# Altium integrated library Microchip Microcontroller 8-Bit PIC12.IntLib: 221 symbols (part 6 of 6)
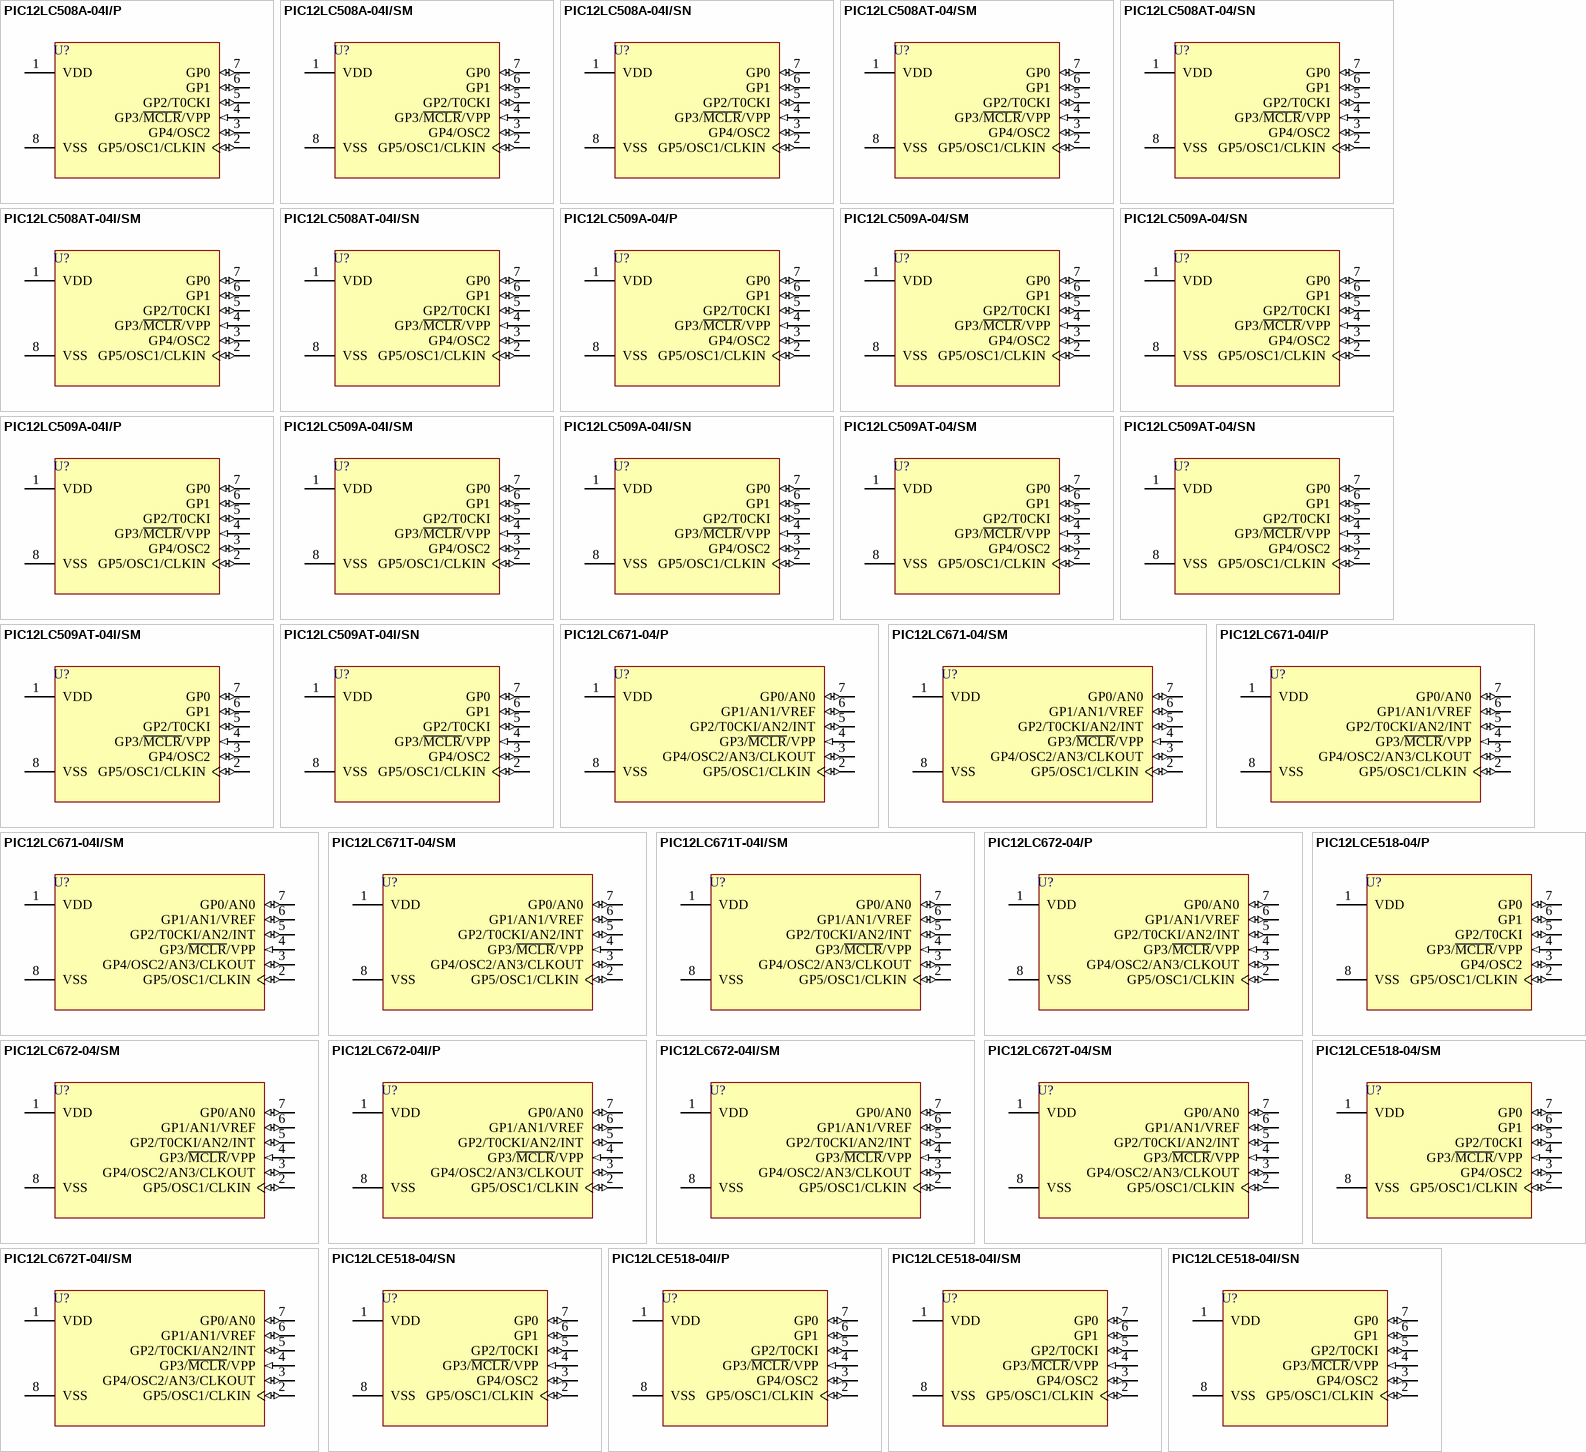
[diagram p11: symbols PIC12LC508A-04I/P to PIC12LCE518-04I/SN]

## PIC12LC672-04I/SM
designator U?
8-Bit CMOS Microcontroller with A/D Converter, 8-Pin SOIC 208mil, 4 MHz, 2.5 to 5.5V Supply Range, Industrial Temperature; Published: 11-Oct-2004; LatestRevisionDate: 13-Apr-2006; LatestRevisionNote: IPC-7351 Footprint Added.; DatasheetVersion: DS30561B_1999; PackageVersion: 2003; PackageReference: SOIC208-8; Publisher: Altium Limited; PackageDescription: 8-Pin Plastic Medium Body Small Outline Package 1.27 mm Pitch; ComponentLink1Description: Manufacturer Link; ComponentLink1URL: http://www.microchip.com; ComponentLink2Description: Datasheet; ComponentLink2URL: http://ww1.microchip.com/downloads/en/DeviceDoc/30561b.pdf; ComponentLink3Description: Packaging Specification; ComponentLink3URL: http://ww1.microchip.com/downloads/en/PackagingSpec/00049AD.pdf
footprint SOIC208-8_N (SOP, 8-Leads, Body 5.2x5.2mm, Pitch 1.27mm, IPC Medium Density)
footprint SOIC208-8_L (SOP, 8-Leads, Body 5.2x5.2mm, Pitch 1.27mm, IPC High Density)
footprint SOIC208-8_M (SOP, 8-Leads, Body 5.2x5.2mm, Pitch 1.27mm, IPC Low Density)
3D model SOIC208-8 (8-Pin Plastic Medium Body Small Outline Package 1.27 mm Pitch)
pins: 1 VDD (power), 2 GP5/OSC1/CLKIN (io), 3 GP4/OSC2/AN3/CLKOUT (io), 4 GP3/~{MCLR}/VPP (in), 5 GP2/T0CKI/AN2/INT (io), 6 GP1/AN1/VREF (io), 7 GP0/AN0 (io), 8 VSS (power)

## PIC12LC672T-04/SM
designator U?
8-Bit CMOS Microcontroller with A/D Converter, 8-Pin SOIC 208mil, 4 MHz, 2.5 to 5.5V Supply Range, Commercial Temperature, Tape and Reel; Published: 11-Oct-2004; LatestRevisionDate: 13-Apr-2006; LatestRevisionNote: IPC-7351 Footprint Added.; DatasheetVersion: DS30561B_1999; PackageVersion: 2003; PackageReference: SOIC208-8; Publisher: Altium Limited; PackageDescription: 8-Pin Plastic Medium Body Small Outline Package 1.27 mm Pitch; ComponentLink1Description: Manufacturer Link; ComponentLink1URL: http://www.microchip.com; ComponentLink2Description: Datasheet; ComponentLink2URL: http://ww1.microchip.com/downloads/en/DeviceDoc/30561b.pdf; ComponentLink3Description: Packaging Specification; ComponentLink3URL: http://ww1.microchip.com/downloads/en/PackagingSpec/00049AD.pdf
footprint SOIC208-8_N (SOP, 8-Leads, Body 5.2x5.2mm, Pitch 1.27mm, IPC Medium Density)
footprint SOIC208-8_L (SOP, 8-Leads, Body 5.2x5.2mm, Pitch 1.27mm, IPC High Density)
footprint SOIC208-8_M (SOP, 8-Leads, Body 5.2x5.2mm, Pitch 1.27mm, IPC Low Density)
3D model SOIC208-8 (8-Pin Plastic Medium Body Small Outline Package 1.27 mm Pitch)
pins: 1 VDD (power), 2 GP5/OSC1/CLKIN (io), 3 GP4/OSC2/AN3/CLKOUT (io), 4 GP3/~{MCLR}/VPP (in), 5 GP2/T0CKI/AN2/INT (io), 6 GP1/AN1/VREF (io), 7 GP0/AN0 (io), 8 VSS (power)

## PIC12LC672T-04I/SM
designator U?
8-Bit CMOS Microcontroller with A/D Converter, 8-Pin SOIC 208mil, 4 MHz, 2.5 to 5.5V Supply Range, Industrial Temperature, Tape and Reel; Published: 11-Oct-2004; LatestRevisionDate: 13-Apr-2006; LatestRevisionNote: IPC-7351 Footprint Added.; DatasheetVersion: DS30561B_1999; PackageVersion: 2003; PackageReference: SOIC208-8; Publisher: Altium Limited; PackageDescription: 8-Pin Plastic Medium Body Small Outline Package 1.27 mm Pitch; ComponentLink1Description: Manufacturer Link; ComponentLink1URL: http://www.microchip.com; ComponentLink2Description: Datasheet; ComponentLink2URL: http://ww1.microchip.com/downloads/en/DeviceDoc/30561b.pdf; ComponentLink3Description: Packaging Specification; ComponentLink3URL: http://ww1.microchip.com/downloads/en/PackagingSpec/00049AD.pdf
footprint SOIC208-8_N (SOP, 8-Leads, Body 5.2x5.2mm, Pitch 1.27mm, IPC Medium Density)
footprint SOIC208-8_L (SOP, 8-Leads, Body 5.2x5.2mm, Pitch 1.27mm, IPC High Density)
footprint SOIC208-8_M (SOP, 8-Leads, Body 5.2x5.2mm, Pitch 1.27mm, IPC Low Density)
3D model SOIC208-8 (8-Pin Plastic Medium Body Small Outline Package 1.27 mm Pitch)
pins: 1 VDD (power), 2 GP5/OSC1/CLKIN (io), 3 GP4/OSC2/AN3/CLKOUT (io), 4 GP3/~{MCLR}/VPP (in), 5 GP2/T0CKI/AN2/INT (io), 6 GP1/AN1/VREF (io), 7 GP0/AN0 (io), 8 VSS (power)

## PIC12LCE518-04/P
designator U?
8-Bit CMOS Microcontroller, 8-Pin PDIP, 4 MHz, 2.5 to 5.5V Supply Range, Commercial Temperature; Note: Not recommended for new designs. Consider PIC12F629 instead.; Published: 11-Oct-2004; DatasheetVersion: DS40139E_1999; PackageVersion: Oct-2005; PackageReference: PDIP300-8; Publisher: Altium Limited; PackageDescription: DIP, Plastic; 8 Leads; Row Spacing 7.62 mm; Pitch 2.54 mm; Code_JEDEC: MS-001; ComponentLink1Description: Manufacturer Link; ComponentLink1URL: http://www.microchip.com; ComponentLink2Description: Datasheet; ComponentLink2URL: http://ww1.microchip.com/downloads/en/DeviceDoc/40139e.pdf; ComponentLink3Description: Packaging Specification; ComponentLink3URL: http://ww1.microchip.com/downloads/en/PackagingSpec/00049AD.pdf
footprint PDIP300-8 (DIP, Plastic; 8 Leads; Row Spacing 7.62 mm; Pitch 2.54 mm)
pins: 1 VDD (power), 2 GP5/OSC1/CLKIN (io), 3 GP4/OSC2 (io), 4 GP3/~{MCLR}/VPP (in), 5 GP2/T0CKI (io), 6 GP1 (io), 7 GP0 (io), 8 VSS (power)

## PIC12LCE518-04/SM
designator U?
8-Bit CMOS Microcontroller, 8-Pin SOIC 208mil, 4 MHz, 2.5 to 5.5V Supply Range, Commercial Temperature; Note: Not recommended for new designs. Consider PIC12F629 instead.; Published: 11-Oct-2004; LatestRevisionDate: 13-Apr-2006; LatestRevisionNote: IPC-7351 Footprint Added.; DatasheetVersion: DS40139E_1999; PackageVersion: 2003; PackageReference: SOIC208-8; Publisher: Altium Limited; PackageDescription: 8-Pin Plastic Medium Body Small Outline Package 1.27 mm Pitch; ComponentLink1Description: Manufacturer Link; ComponentLink1URL: http://www.microchip.com; ComponentLink2Description: Datasheet; ComponentLink2URL: http://ww1.microchip.com/downloads/en/DeviceDoc/40139e.pdf; ComponentLink3Description: Packaging Specification; ComponentLink3URL: http://ww1.microchip.com/downloads/en/PackagingSpec/00049AD.pdf
footprint SOIC208-8_N (SOP, 8-Leads, Body 5.2x5.2mm, Pitch 1.27mm, IPC Medium Density)
footprint SOIC208-8_L (SOP, 8-Leads, Body 5.2x5.2mm, Pitch 1.27mm, IPC High Density)
footprint SOIC208-8_M (SOP, 8-Leads, Body 5.2x5.2mm, Pitch 1.27mm, IPC Low Density)
3D model SOIC208-8 (8-Pin Plastic Medium Body Small Outline Package 1.27 mm Pitch)
pins: 1 VDD (power), 2 GP5/OSC1/CLKIN (io), 3 GP4/OSC2 (io), 4 GP3/~{MCLR}/VPP (in), 5 GP2/T0CKI (io), 6 GP1 (io), 7 GP0 (io), 8 VSS (power)

## PIC12LCE518-04/SN
designator U?
8-Bit CMOS Microcontroller, 8-Pin SOIC 150mil, 4 MHz, 2.5 to 5.5V Supply Range, Commercial Temperature; Note: Not recommended for new designs. Consider PIC12F629 instead.; Published: 11-Oct-2004; LatestRevisionDate: 13-Apr-2006; LatestRevisionNote: IPC-7351 Footprint Added.; DatasheetVersion: DS40139E_1999; PackageVersion: Oct-2005; PackageReference: SOIC150-8; Publisher: Altium Limited; PackageDescription: 8-Pin Plastic Narrow Body Small Outline Integrated Circuit 1.27 mm Pitch; Code_JEDEC: MS-012; ComponentLink1Description: Manufacturer Link; ComponentLink1URL: http://www.microchip.com; ComponentLink2Description: Datasheet; ComponentLink2URL: http://ww1.microchip.com/downloads/en/DeviceDoc/40139e.pdf; ComponentLink3Description: Packaging Specification; ComponentLink3URL: http://ww1.microchip.com/downloads/en/PackagingSpec/00049AD.pdf
footprint SOIC150-8_N (SOIC, 8-Leads, Body 4.9x3.8mm, Pitch 1.27mm, IPC Medium Density)
footprint SOIC150-8_L (SOIC, 8-Leads, Body 4.9x3.8mm, Pitch 1.27mm, IPC High Density)
footprint SOIC150-8_M (SOIC, 8-Leads, Body 4.9x3.8mm, Pitch 1.27mm, IPC Low Density)
3D model SOIC150-8 (8-Pin Plastic Narrow Body Small Outline Integrated Circuit 1.27 mm Pitch)
pins: 1 VDD (power), 2 GP5/OSC1/CLKIN (io), 3 GP4/OSC2 (io), 4 GP3/~{MCLR}/VPP (in), 5 GP2/T0CKI (io), 6 GP1 (io), 7 GP0 (io), 8 VSS (power)

## PIC12LCE518-04I/P
designator U?
8-Bit CMOS Microcontroller, 8-Pin PDIP, 4 MHz, 2.5 to 5.5V Supply Range, Industrial Temperature; Note: Not recommended for new designs. Consider PIC12F629 instead.; Published: 11-Oct-2004; DatasheetVersion: DS40139E_1999; PackageVersion: Oct-2005; PackageReference: PDIP300-8; Publisher: Altium Limited; PackageDescription: DIP, Plastic; 8 Leads; Row Spacing 7.62 mm; Pitch 2.54 mm; Code_JEDEC: MS-001; ComponentLink1Description: Manufacturer Link; ComponentLink1URL: http://www.microchip.com; ComponentLink2Description: Datasheet; ComponentLink2URL: http://ww1.microchip.com/downloads/en/DeviceDoc/40139e.pdf; ComponentLink3Description: Packaging Specification; ComponentLink3URL: http://ww1.microchip.com/downloads/en/PackagingSpec/00049AD.pdf
footprint PDIP300-8 (DIP, Plastic; 8 Leads; Row Spacing 7.62 mm; Pitch 2.54 mm)
pins: 1 VDD (power), 2 GP5/OSC1/CLKIN (io), 3 GP4/OSC2 (io), 4 GP3/~{MCLR}/VPP (in), 5 GP2/T0CKI (io), 6 GP1 (io), 7 GP0 (io), 8 VSS (power)

## PIC12LCE518-04I/SM
designator U?
8-Bit CMOS Microcontroller, 8-Pin SOIC 208mil, 4 MHz, 2.5 to 5.5V Supply Range, Industrial Temperature; Note: Not recommended for new designs. Consider PIC12F629 instead.; Published: 11-Oct-2004; LatestRevisionDate: 13-Apr-2006; LatestRevisionNote: IPC-7351 Footprint Added.; DatasheetVersion: DS40139E_1999; PackageVersion: 2003; PackageReference: SOIC208-8; Publisher: Altium Limited; PackageDescription: 8-Pin Plastic Medium Body Small Outline Package 1.27 mm Pitch; ComponentLink1Description: Manufacturer Link; ComponentLink1URL: http://www.microchip.com; ComponentLink2Description: Datasheet; ComponentLink2URL: http://ww1.microchip.com/downloads/en/DeviceDoc/40139e.pdf; ComponentLink3Description: Packaging Specification; ComponentLink3URL: http://ww1.microchip.com/downloads/en/PackagingSpec/00049AD.pdf
footprint SOIC208-8_N (SOP, 8-Leads, Body 5.2x5.2mm, Pitch 1.27mm, IPC Medium Density)
footprint SOIC208-8_L (SOP, 8-Leads, Body 5.2x5.2mm, Pitch 1.27mm, IPC High Density)
footprint SOIC208-8_M (SOP, 8-Leads, Body 5.2x5.2mm, Pitch 1.27mm, IPC Low Density)
3D model SOIC208-8 (8-Pin Plastic Medium Body Small Outline Package 1.27 mm Pitch)
pins: 1 VDD (power), 2 GP5/OSC1/CLKIN (io), 3 GP4/OSC2 (io), 4 GP3/~{MCLR}/VPP (in), 5 GP2/T0CKI (io), 6 GP1 (io), 7 GP0 (io), 8 VSS (power)

## PIC12LCE518-04I/SN
designator U?
8-Bit CMOS Microcontroller, 8-Pin SOIC 150mil, 4 MHz, 2.5 to 5.5V Supply Range, Industrial Temperature; Note: Not recommended for new designs. Consider PIC12F629 instead.; Published: 11-Oct-2004; LatestRevisionDate: 13-Apr-2006; LatestRevisionNote: IPC-7351 Footprint Added.; DatasheetVersion: DS40139E_1999; PackageVersion: Oct-2005; PackageReference: SOIC150-8; Publisher: Altium Limited; PackageDescription: 8-Pin Plastic Narrow Body Small Outline Integrated Circuit 1.27 mm Pitch; Code_JEDEC: MS-012; ComponentLink1Description: Manufacturer Link; ComponentLink1URL: http://www.microchip.com; ComponentLink2Description: Datasheet; ComponentLink2URL: http://ww1.microchip.com/downloads/en/DeviceDoc/40139e.pdf; ComponentLink3Description: Packaging Specification; ComponentLink3URL: http://ww1.microchip.com/downloads/en/PackagingSpec/00049AD.pdf
footprint SOIC150-8_N (SOIC, 8-Leads, Body 4.9x3.8mm, Pitch 1.27mm, IPC Medium Density)
footprint SOIC150-8_L (SOIC, 8-Leads, Body 4.9x3.8mm, Pitch 1.27mm, IPC High Density)
footprint SOIC150-8_M (SOIC, 8-Leads, Body 4.9x3.8mm, Pitch 1.27mm, IPC Low Density)
3D model SOIC150-8 (8-Pin Plastic Narrow Body Small Outline Integrated Circuit 1.27 mm Pitch)
pins: 1 VDD (power), 2 GP5/OSC1/CLKIN (io), 3 GP4/OSC2 (io), 4 GP3/~{MCLR}/VPP (in), 5 GP2/T0CKI (io), 6 GP1 (io), 7 GP0 (io), 8 VSS (power)

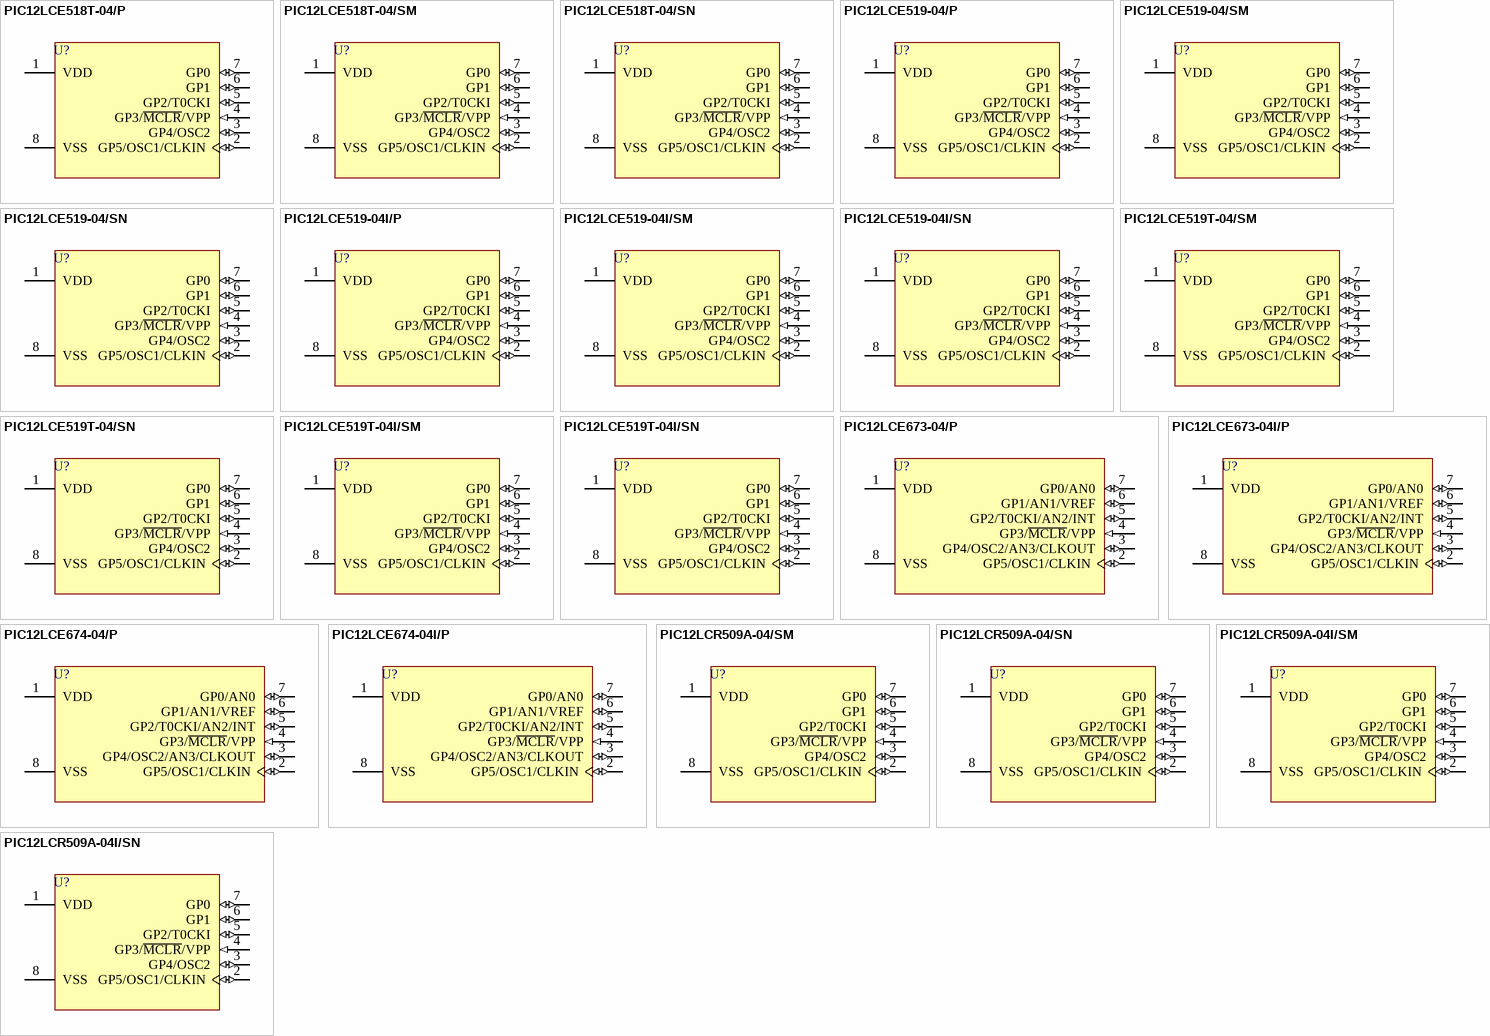
[diagram p6: symbols PIC12LCE518T-04/P to PIC12LCR509A-04I/SN]

## PIC12LCE518T-04/P
designator U?
8-Bit CMOS Microcontroller, 8-Pin PDIP, 4 MHz, 2.5 to 5.5V Supply Range, Commercial Temperature, Tape and Reel; Note: Not recommended for new designs. Consider PIC12F629 instead.; Published: 11-Oct-2004; DatasheetVersion: DS40139E_1999; PackageVersion: Oct-2005; PackageReference: PDIP300-8; Publisher: Altium Limited; PackageDescription: DIP, Plastic; 8 Leads; Row Spacing 7.62 mm; Pitch 2.54 mm; Code_JEDEC: MS-001; ComponentLink1Description: Manufacturer Link; ComponentLink1URL: http://www.microchip.com; ComponentLink2Description: Datasheet; ComponentLink2URL: http://ww1.microchip.com/downloads/en/DeviceDoc/40139e.pdf; ComponentLink3Description: Packaging Specification; ComponentLink3URL: http://ww1.microchip.com/downloads/en/PackagingSpec/00049AD.pdf
footprint PDIP300-8 (DIP, Plastic; 8 Leads; Row Spacing 7.62 mm; Pitch 2.54 mm)
pins: 1 VDD (power), 2 GP5/OSC1/CLKIN (io), 3 GP4/OSC2 (io), 4 GP3/~{MCLR}/VPP (in), 5 GP2/T0CKI (io), 6 GP1 (io), 7 GP0 (io), 8 VSS (power)

## PIC12LCE518T-04/SM
designator U?
8-Bit CMOS Microcontroller, 8-Pin SOIC 208mil, 4 MHz, 2.5 to 5.5V Supply Range, Commercial Temperature, Tape and Reel; Note: Not recommended for new designs. Consider PIC12F629 instead.; Published: 11-Oct-2004; LatestRevisionDate: 13-Apr-2006; LatestRevisionNote: IPC-7351 Footprint Added.; DatasheetVersion: DS40139E_1999; PackageVersion: 2003; PackageReference: SOIC208-8; Publisher: Altium Limited; PackageDescription: 8-Pin Plastic Medium Body Small Outline Package 1.27 mm Pitch; ComponentLink1Description: Manufacturer Link; ComponentLink1URL: http://www.microchip.com; ComponentLink2Description: Datasheet; ComponentLink2URL: http://ww1.microchip.com/downloads/en/DeviceDoc/40139e.pdf; ComponentLink3Description: Packaging Specification; ComponentLink3URL: http://ww1.microchip.com/downloads/en/PackagingSpec/00049AD.pdf
footprint SOIC208-8_N (SOP, 8-Leads, Body 5.2x5.2mm, Pitch 1.27mm, IPC Medium Density)
footprint SOIC208-8_L (SOP, 8-Leads, Body 5.2x5.2mm, Pitch 1.27mm, IPC High Density)
footprint SOIC208-8_M (SOP, 8-Leads, Body 5.2x5.2mm, Pitch 1.27mm, IPC Low Density)
3D model SOIC208-8 (8-Pin Plastic Medium Body Small Outline Package 1.27 mm Pitch)
pins: 1 VDD (power), 2 GP5/OSC1/CLKIN (io), 3 GP4/OSC2 (io), 4 GP3/~{MCLR}/VPP (in), 5 GP2/T0CKI (io), 6 GP1 (io), 7 GP0 (io), 8 VSS (power)

## PIC12LCE518T-04/SN
designator U?
8-Bit CMOS Microcontroller, 8-Pin SOIC 150mil, 4 MHz, 2.5 to 5.5V Supply Range, Commercial Temperature, Tape and Reel; Note: Not recommended for new designs. Consider PIC12F629 instead.; Published: 11-Oct-2004; LatestRevisionDate: 13-Apr-2006; LatestRevisionNote: IPC-7351 Footprint Added.; DatasheetVersion: DS40139E_1999; PackageVersion: Oct-2005; PackageReference: SOIC150-8; Publisher: Altium Limited; PackageDescription: 8-Pin Plastic Narrow Body Small Outline Integrated Circuit 1.27 mm Pitch; Code_JEDEC: MS-012; ComponentLink1Description: Manufacturer Link; ComponentLink1URL: http://www.microchip.com; ComponentLink2Description: Datasheet; ComponentLink2URL: http://ww1.microchip.com/downloads/en/DeviceDoc/40139e.pdf; ComponentLink3Description: Packaging Specification; ComponentLink3URL: http://ww1.microchip.com/downloads/en/PackagingSpec/00049AD.pdf
footprint SOIC150-8_N (SOIC, 8-Leads, Body 4.9x3.8mm, Pitch 1.27mm, IPC Medium Density)
footprint SOIC150-8_L (SOIC, 8-Leads, Body 4.9x3.8mm, Pitch 1.27mm, IPC High Density)
footprint SOIC150-8_M (SOIC, 8-Leads, Body 4.9x3.8mm, Pitch 1.27mm, IPC Low Density)
3D model SOIC150-8 (8-Pin Plastic Narrow Body Small Outline Integrated Circuit 1.27 mm Pitch)
pins: 1 VDD (power), 2 GP5/OSC1/CLKIN (io), 3 GP4/OSC2 (io), 4 GP3/~{MCLR}/VPP (in), 5 GP2/T0CKI (io), 6 GP1 (io), 7 GP0 (io), 8 VSS (power)

## PIC12LCE519-04/P
designator U?
8-Bit CMOS Microcontroller, 8-Pin PDIP, 4 MHz, 2.5 to 5.5V Supply Range, Commercial Temperature; Note: Not recommended for new designs. Consider PIC12F629 instead.; Published: 11-Oct-2004; DatasheetVersion: DS40139E_1999; PackageVersion: Oct-2005; PackageReference: PDIP300-8; Publisher: Altium Limited; PackageDescription: DIP, Plastic; 8 Leads; Row Spacing 7.62 mm; Pitch 2.54 mm; Code_JEDEC: MS-001; ComponentLink1Description: Manufacturer Link; ComponentLink1URL: http://www.microchip.com; ComponentLink2Description: Datasheet; ComponentLink2URL: http://ww1.microchip.com/downloads/en/DeviceDoc/40139e.pdf; ComponentLink3Description: Packaging Specification; ComponentLink3URL: http://ww1.microchip.com/downloads/en/PackagingSpec/00049AD.pdf
footprint PDIP300-8 (DIP, Plastic; 8 Leads; Row Spacing 7.62 mm; Pitch 2.54 mm)
pins: 1 VDD (power), 2 GP5/OSC1/CLKIN (io), 3 GP4/OSC2 (io), 4 GP3/~{MCLR}/VPP (in), 5 GP2/T0CKI (io), 6 GP1 (io), 7 GP0 (io), 8 VSS (power)

## PIC12LCE519-04/SM
designator U?
8-Bit CMOS Microcontroller, 8-Pin SOIC 208mil, 4 MHz, 2.5 to 5.5V Supply Range, Commercial Temperature; Note: Not recommended for new designs. Consider PIC12F629 instead.; Published: 11-Oct-2004; LatestRevisionDate: 13-Apr-2006; LatestRevisionNote: IPC-7351 Footprint Added.; DatasheetVersion: DS40139E_1999; PackageVersion: 2003; PackageReference: SOIC208-8; Publisher: Altium Limited; PackageDescription: 8-Pin Plastic Medium Body Small Outline Package 1.27 mm Pitch; ComponentLink1Description: Manufacturer Link; ComponentLink1URL: http://www.microchip.com; ComponentLink2Description: Datasheet; ComponentLink2URL: http://ww1.microchip.com/downloads/en/DeviceDoc/40139e.pdf; ComponentLink3Description: Packaging Specification; ComponentLink3URL: http://ww1.microchip.com/downloads/en/PackagingSpec/00049AD.pdf
footprint SOIC208-8_N (SOP, 8-Leads, Body 5.2x5.2mm, Pitch 1.27mm, IPC Medium Density)
footprint SOIC208-8_L (SOP, 8-Leads, Body 5.2x5.2mm, Pitch 1.27mm, IPC High Density)
footprint SOIC208-8_M (SOP, 8-Leads, Body 5.2x5.2mm, Pitch 1.27mm, IPC Low Density)
3D model SOIC208-8 (8-Pin Plastic Medium Body Small Outline Package 1.27 mm Pitch)
pins: 1 VDD (power), 2 GP5/OSC1/CLKIN (io), 3 GP4/OSC2 (io), 4 GP3/~{MCLR}/VPP (in), 5 GP2/T0CKI (io), 6 GP1 (io), 7 GP0 (io), 8 VSS (power)

## PIC12LCE519-04/SN
designator U?
8-Bit CMOS Microcontroller, 8-Pin SOIC 150mil, 4 MHz, 2.5 to 5.5V Supply Range, Commercial Temperature; Note: Not recommended for new designs. Consider PIC12F629 instead.; Published: 11-Oct-2004; LatestRevisionDate: 13-Apr-2006; LatestRevisionNote: IPC-7351 Footprint Added.; DatasheetVersion: DS40139E_1999; PackageVersion: Oct-2005; PackageReference: SOIC150-8; Publisher: Altium Limited; PackageDescription: 8-Pin Plastic Narrow Body Small Outline Integrated Circuit 1.27 mm Pitch; Code_JEDEC: MS-012; ComponentLink1Description: Manufacturer Link; ComponentLink1URL: http://www.microchip.com; ComponentLink2Description: Datasheet; ComponentLink2URL: http://ww1.microchip.com/downloads/en/DeviceDoc/40139e.pdf; ComponentLink3Description: Packaging Specification; ComponentLink3URL: http://ww1.microchip.com/downloads/en/PackagingSpec/00049AD.pdf
footprint SOIC150-8_N (SOIC, 8-Leads, Body 4.9x3.8mm, Pitch 1.27mm, IPC Medium Density)
footprint SOIC150-8_L (SOIC, 8-Leads, Body 4.9x3.8mm, Pitch 1.27mm, IPC High Density)
footprint SOIC150-8_M (SOIC, 8-Leads, Body 4.9x3.8mm, Pitch 1.27mm, IPC Low Density)
3D model SOIC150-8 (8-Pin Plastic Narrow Body Small Outline Integrated Circuit 1.27 mm Pitch)
pins: 1 VDD (power), 2 GP5/OSC1/CLKIN (io), 3 GP4/OSC2 (io), 4 GP3/~{MCLR}/VPP (in), 5 GP2/T0CKI (io), 6 GP1 (io), 7 GP0 (io), 8 VSS (power)

## PIC12LCE519-04I/P
designator U?
8-Bit CMOS Microcontroller, 8-Pin PDIP, 4 MHz, 2.5 to 5.5V Supply Range, Industrial Temperature; Note: Not recommended for new designs. Consider PIC12F629 instead.; Published: 11-Oct-2004; DatasheetVersion: DS40139E_1999; PackageVersion: Oct-2005; PackageReference: PDIP300-8; Publisher: Altium Limited; PackageDescription: DIP, Plastic; 8 Leads; Row Spacing 7.62 mm; Pitch 2.54 mm; Code_JEDEC: MS-001; ComponentLink1Description: Manufacturer Link; ComponentLink1URL: http://www.microchip.com; ComponentLink2Description: Datasheet; ComponentLink2URL: http://ww1.microchip.com/downloads/en/DeviceDoc/40139e.pdf; ComponentLink3Description: Packaging Specification; ComponentLink3URL: http://ww1.microchip.com/downloads/en/PackagingSpec/00049AD.pdf
footprint PDIP300-8 (DIP, Plastic; 8 Leads; Row Spacing 7.62 mm; Pitch 2.54 mm)
pins: 1 VDD (power), 2 GP5/OSC1/CLKIN (io), 3 GP4/OSC2 (io), 4 GP3/~{MCLR}/VPP (in), 5 GP2/T0CKI (io), 6 GP1 (io), 7 GP0 (io), 8 VSS (power)

## PIC12LCE519-04I/SM
designator U?
8-Bit CMOS Microcontroller, 8-Pin SOIC 208mil, 4 MHz, 2.5 to 5.5V Supply Range, Industrial Temperature; Note: Not recommended for new designs. Consider PIC12F629 instead.; Published: 11-Oct-2004; LatestRevisionDate: 13-Apr-2006; LatestRevisionNote: IPC-7351 Footprint Added.; DatasheetVersion: DS40139E_1999; PackageVersion: 2003; PackageReference: SOIC208-8; Publisher: Altium Limited; PackageDescription: 8-Pin Plastic Medium Body Small Outline Package 1.27 mm Pitch; ComponentLink1Description: Manufacturer Link; ComponentLink1URL: http://www.microchip.com; ComponentLink2Description: Datasheet; ComponentLink2URL: http://ww1.microchip.com/downloads/en/DeviceDoc/40139e.pdf; ComponentLink3Description: Packaging Specification; ComponentLink3URL: http://ww1.microchip.com/downloads/en/PackagingSpec/00049AD.pdf
footprint SOIC208-8_N (SOP, 8-Leads, Body 5.2x5.2mm, Pitch 1.27mm, IPC Medium Density)
footprint SOIC208-8_L (SOP, 8-Leads, Body 5.2x5.2mm, Pitch 1.27mm, IPC High Density)
footprint SOIC208-8_M (SOP, 8-Leads, Body 5.2x5.2mm, Pitch 1.27mm, IPC Low Density)
3D model SOIC208-8 (8-Pin Plastic Medium Body Small Outline Package 1.27 mm Pitch)
pins: 1 VDD (power), 2 GP5/OSC1/CLKIN (io), 3 GP4/OSC2 (io), 4 GP3/~{MCLR}/VPP (in), 5 GP2/T0CKI (io), 6 GP1 (io), 7 GP0 (io), 8 VSS (power)

## PIC12LCE519-04I/SN
designator U?
8-Bit CMOS Microcontroller, 8-Pin SOIC 150mil, 4 MHz, 2.5 to 5.5V Supply Range, Industrial Temperature; Note: Not recommended for new designs. Consider PIC12F629 instead.; Published: 11-Oct-2004; LatestRevisionDate: 13-Apr-2006; LatestRevisionNote: IPC-7351 Footprint Added.; DatasheetVersion: DS40139E_1999; PackageVersion: Oct-2005; PackageReference: SOIC150-8; Publisher: Altium Limited; PackageDescription: 8-Pin Plastic Narrow Body Small Outline Integrated Circuit 1.27 mm Pitch; Code_JEDEC: MS-012; ComponentLink1Description: Manufacturer Link; ComponentLink1URL: http://www.microchip.com; ComponentLink2Description: Datasheet; ComponentLink2URL: http://ww1.microchip.com/downloads/en/DeviceDoc/40139e.pdf; ComponentLink3Description: Packaging Specification; ComponentLink3URL: http://ww1.microchip.com/downloads/en/PackagingSpec/00049AD.pdf
footprint SOIC150-8_N (SOIC, 8-Leads, Body 4.9x3.8mm, Pitch 1.27mm, IPC Medium Density)
footprint SOIC150-8_L (SOIC, 8-Leads, Body 4.9x3.8mm, Pitch 1.27mm, IPC High Density)
footprint SOIC150-8_M (SOIC, 8-Leads, Body 4.9x3.8mm, Pitch 1.27mm, IPC Low Density)
3D model SOIC150-8 (8-Pin Plastic Narrow Body Small Outline Integrated Circuit 1.27 mm Pitch)
pins: 1 VDD (power), 2 GP5/OSC1/CLKIN (io), 3 GP4/OSC2 (io), 4 GP3/~{MCLR}/VPP (in), 5 GP2/T0CKI (io), 6 GP1 (io), 7 GP0 (io), 8 VSS (power)

## PIC12LCE519T-04/SM
designator U?
8-Bit CMOS Microcontroller, 8-Pin SOIC 208mil, 4 MHz, 2.5 to 5.5V Supply Range, Commercial Temperature, Tape and Reel; Note: Not recommended for new designs. Consider PIC12F629 instead.; Published: 11-Oct-2004; LatestRevisionDate: 13-Apr-2006; LatestRevisionNote: IPC-7351 Footprint Added.; DatasheetVersion: DS40139E_1999; PackageVersion: 2003; PackageReference: SOIC208-8; Publisher: Altium Limited; PackageDescription: 8-Pin Plastic Medium Body Small Outline Package 1.27 mm Pitch; ComponentLink1Description: Manufacturer Link; ComponentLink1URL: http://www.microchip.com; ComponentLink2Description: Datasheet; ComponentLink2URL: http://ww1.microchip.com/downloads/en/DeviceDoc/40139e.pdf; ComponentLink3Description: Packaging Specification; ComponentLink3URL: http://ww1.microchip.com/downloads/en/PackagingSpec/00049AD.pdf
footprint SOIC208-8_N (SOP, 8-Leads, Body 5.2x5.2mm, Pitch 1.27mm, IPC Medium Density)
footprint SOIC208-8_L (SOP, 8-Leads, Body 5.2x5.2mm, Pitch 1.27mm, IPC High Density)
footprint SOIC208-8_M (SOP, 8-Leads, Body 5.2x5.2mm, Pitch 1.27mm, IPC Low Density)
3D model SOIC208-8 (8-Pin Plastic Medium Body Small Outline Package 1.27 mm Pitch)
pins: 1 VDD (power), 2 GP5/OSC1/CLKIN (io), 3 GP4/OSC2 (io), 4 GP3/~{MCLR}/VPP (in), 5 GP2/T0CKI (io), 6 GP1 (io), 7 GP0 (io), 8 VSS (power)

## PIC12LCE519T-04/SN
designator U?
8-Bit CMOS Microcontroller, 8-Pin SOIC 150mil, 4 MHz, 2.5 to 5.5V Supply Range, Commercial Temperature, Tape and Reel; Note: Not recommended for new designs. Consider PIC12F629 instead.; Published: 11-Oct-2004; LatestRevisionDate: 13-Apr-2006; LatestRevisionNote: IPC-7351 Footprint Added.; DatasheetVersion: DS40139E_1999; PackageVersion: Oct-2005; PackageReference: SOIC150-8; Publisher: Altium Limited; PackageDescription: 8-Pin Plastic Narrow Body Small Outline Integrated Circuit 1.27 mm Pitch; Code_JEDEC: MS-012; ComponentLink1Description: Manufacturer Link; ComponentLink1URL: http://www.microchip.com; ComponentLink2Description: Datasheet; ComponentLink2URL: http://ww1.microchip.com/downloads/en/DeviceDoc/40139e.pdf; ComponentLink3Description: Packaging Specification; ComponentLink3URL: http://ww1.microchip.com/downloads/en/PackagingSpec/00049AD.pdf
footprint SOIC150-8_N (SOIC, 8-Leads, Body 4.9x3.8mm, Pitch 1.27mm, IPC Medium Density)
footprint SOIC150-8_L (SOIC, 8-Leads, Body 4.9x3.8mm, Pitch 1.27mm, IPC High Density)
footprint SOIC150-8_M (SOIC, 8-Leads, Body 4.9x3.8mm, Pitch 1.27mm, IPC Low Density)
3D model SOIC150-8 (8-Pin Plastic Narrow Body Small Outline Integrated Circuit 1.27 mm Pitch)
pins: 1 VDD (power), 2 GP5/OSC1/CLKIN (io), 3 GP4/OSC2 (io), 4 GP3/~{MCLR}/VPP (in), 5 GP2/T0CKI (io), 6 GP1 (io), 7 GP0 (io), 8 VSS (power)

## PIC12LCE519T-04I/SM
designator U?
8-Bit CMOS Microcontroller, 8-Pin SOIC 208mil, 4 MHz, 2.5 to 5.5V Supply Range, Industrial Temperature, Tape and Reel; Note: Not recommended for new designs. Consider PIC12F629 instead.; Published: 11-Oct-2004; LatestRevisionDate: 13-Apr-2006; LatestRevisionNote: IPC-7351 Footprint Added.; DatasheetVersion: DS40139E_1999; PackageVersion: 2003; PackageReference: SOIC208-8; Publisher: Altium Limited; PackageDescription: 8-Pin Plastic Medium Body Small Outline Package 1.27 mm Pitch; ComponentLink1Description: Manufacturer Link; ComponentLink1URL: http://www.microchip.com; ComponentLink2Description: Datasheet; ComponentLink2URL: http://ww1.microchip.com/downloads/en/DeviceDoc/40139e.pdf; ComponentLink3Description: Packaging Specification; ComponentLink3URL: http://ww1.microchip.com/downloads/en/PackagingSpec/00049AD.pdf
footprint SOIC208-8_N (SOP, 8-Leads, Body 5.2x5.2mm, Pitch 1.27mm, IPC Medium Density)
footprint SOIC208-8_L (SOP, 8-Leads, Body 5.2x5.2mm, Pitch 1.27mm, IPC High Density)
footprint SOIC208-8_M (SOP, 8-Leads, Body 5.2x5.2mm, Pitch 1.27mm, IPC Low Density)
3D model SOIC208-8 (8-Pin Plastic Medium Body Small Outline Package 1.27 mm Pitch)
pins: 1 VDD (power), 2 GP5/OSC1/CLKIN (io), 3 GP4/OSC2 (io), 4 GP3/~{MCLR}/VPP (in), 5 GP2/T0CKI (io), 6 GP1 (io), 7 GP0 (io), 8 VSS (power)

## PIC12LCE519T-04I/SN
designator U?
8-Bit CMOS Microcontroller, 8-Pin SOIC 150mil, 4 MHz, 2.5 to 5.5V Supply Range, Industrial Temperature, Tape and Reel; Note: Not recommended for new designs. Consider PIC12F629 instead.; Published: 11-Oct-2004; LatestRevisionDate: 13-Apr-2006; LatestRevisionNote: IPC-7351 Footprint Added.; DatasheetVersion: DS40139E_1999; PackageVersion: Oct-2005; PackageReference: SOIC150-8; Publisher: Altium Limited; PackageDescription: 8-Pin Plastic Narrow Body Small Outline Integrated Circuit 1.27 mm Pitch; Code_JEDEC: MS-012; ComponentLink1Description: Manufacturer Link; ComponentLink1URL: http://www.microchip.com; ComponentLink2Description: Datasheet; ComponentLink2URL: http://ww1.microchip.com/downloads/en/DeviceDoc/40139e.pdf; ComponentLink3Description: Packaging Specification; ComponentLink3URL: http://ww1.microchip.com/downloads/en/PackagingSpec/00049AD.pdf
footprint SOIC150-8_N (SOIC, 8-Leads, Body 4.9x3.8mm, Pitch 1.27mm, IPC Medium Density)
footprint SOIC150-8_L (SOIC, 8-Leads, Body 4.9x3.8mm, Pitch 1.27mm, IPC High Density)
footprint SOIC150-8_M (SOIC, 8-Leads, Body 4.9x3.8mm, Pitch 1.27mm, IPC Low Density)
3D model SOIC150-8 (8-Pin Plastic Narrow Body Small Outline Integrated Circuit 1.27 mm Pitch)
pins: 1 VDD (power), 2 GP5/OSC1/CLKIN (io), 3 GP4/OSC2 (io), 4 GP3/~{MCLR}/VPP (in), 5 GP2/T0CKI (io), 6 GP1 (io), 7 GP0 (io), 8 VSS (power)

## PIC12LCE673-04/P
designator U?
8-Bit CMOS Microcontroller with A/D Converter and EEPROM Data Memory, 8-Pin PDIP, 4 MHz, 2.5 to 5.5V Supply Range, Commercial Temperature; Note: Not recommended for new designs. Consider PIC12F675 instead.; Published: 11-Oct-2004; DatasheetVersion: DS30561B_1999; PackageVersion: Oct-2005; PackageReference: PDIP300-8; Publisher: Altium Limited; PackageDescription: DIP, Plastic; 8 Leads; Row Spacing 7.62 mm; Pitch 2.54 mm; Code_JEDEC: MS-001; ComponentLink1Description: Manufacturer Link; ComponentLink1URL: http://www.microchip.com; ComponentLink2Description: Datasheet; ComponentLink2URL: http://ww1.microchip.com/downloads/en/DeviceDoc/30561b.pdf; ComponentLink3Description: Packaging Specification; ComponentLink3URL: http://ww1.microchip.com/downloads/en/PackagingSpec/00049AD.pdf
footprint PDIP300-8 (DIP, Plastic; 8 Leads; Row Spacing 7.62 mm; Pitch 2.54 mm)
pins: 1 VDD (power), 2 GP5/OSC1/CLKIN (io), 3 GP4/OSC2/AN3/CLKOUT (io), 4 GP3/~{MCLR}/VPP (in), 5 GP2/T0CKI/AN2/INT (io), 6 GP1/AN1/VREF (io), 7 GP0/AN0 (io), 8 VSS (power)

## PIC12LCE673-04I/P
designator U?
8-Bit CMOS Microcontroller with A/D Converter and EEPROM Data Memory, 8-Pin PDIP, 4 MHz, 2.5 to 5.5V Supply Range, Industrial Temperature; Note: Not recommended for new designs. Consider PIC12F675 instead.; Published: 11-Oct-2004; DatasheetVersion: DS30561B_1999; PackageVersion: Oct-2005; PackageReference: PDIP300-8; Publisher: Altium Limited; PackageDescription: DIP, Plastic; 8 Leads; Row Spacing 7.62 mm; Pitch 2.54 mm; Code_JEDEC: MS-001; ComponentLink1Description: Manufacturer Link; ComponentLink1URL: http://www.microchip.com; ComponentLink2Description: Datasheet; ComponentLink2URL: http://ww1.microchip.com/downloads/en/DeviceDoc/30561b.pdf; ComponentLink3Description: Packaging Specification; ComponentLink3URL: http://ww1.microchip.com/downloads/en/PackagingSpec/00049AD.pdf
footprint PDIP300-8 (DIP, Plastic; 8 Leads; Row Spacing 7.62 mm; Pitch 2.54 mm)
pins: 1 VDD (power), 2 GP5/OSC1/CLKIN (io), 3 GP4/OSC2/AN3/CLKOUT (io), 4 GP3/~{MCLR}/VPP (in), 5 GP2/T0CKI/AN2/INT (io), 6 GP1/AN1/VREF (io), 7 GP0/AN0 (io), 8 VSS (power)

## PIC12LCE674-04/P
designator U?
8-Bit CMOS Microcontroller with A/D Converter and EEPROM Data Memory, 8-Pin PDIP, 4 MHz, 2.5 to 5.5V Supply Range, Commercial Temperature; Published: 11-Oct-2004; DatasheetVersion: DS30561B_1999; PackageVersion: Oct-2005; PackageReference: PDIP300-8; Publisher: Altium Limited; PackageDescription: DIP, Plastic; 8 Leads; Row Spacing 7.62 mm; Pitch 2.54 mm; Code_JEDEC: MS-001; ComponentLink1Description: Manufacturer Link; ComponentLink1URL: http://www.microchip.com; ComponentLink2Description: Datasheet; ComponentLink2URL: http://ww1.microchip.com/downloads/en/DeviceDoc/30561b.pdf; ComponentLink3Description: Packaging Specification; ComponentLink3URL: http://ww1.microchip.com/downloads/en/PackagingSpec/00049AD.pdf
footprint PDIP300-8 (DIP, Plastic; 8 Leads; Row Spacing 7.62 mm; Pitch 2.54 mm)
pins: 1 VDD (power), 2 GP5/OSC1/CLKIN (io), 3 GP4/OSC2/AN3/CLKOUT (io), 4 GP3/~{MCLR}/VPP (in), 5 GP2/T0CKI/AN2/INT (io), 6 GP1/AN1/VREF (io), 7 GP0/AN0 (io), 8 VSS (power)

## PIC12LCE674-04I/P
designator U?
8-Bit CMOS Microcontroller with A/D Converter and EEPROM Data Memory, 8-Pin PDIP, 4 MHz, 2.5 to 5.5V Supply Range, Industrial Temperature; Published: 11-Oct-2004; DatasheetVersion: DS30561B_1999; PackageVersion: Oct-2005; PackageReference: PDIP300-8; Publisher: Altium Limited; PackageDescription: DIP, Plastic; 8 Leads; Row Spacing 7.62 mm; Pitch 2.54 mm; Code_JEDEC: MS-001; ComponentLink1Description: Manufacturer Link; ComponentLink1URL: http://www.microchip.com; ComponentLink2Description: Datasheet; ComponentLink2URL: http://ww1.microchip.com/downloads/en/DeviceDoc/30561b.pdf; ComponentLink3Description: Packaging Specification; ComponentLink3URL: http://ww1.microchip.com/downloads/en/PackagingSpec/00049AD.pdf
footprint PDIP300-8 (DIP, Plastic; 8 Leads; Row Spacing 7.62 mm; Pitch 2.54 mm)
pins: 1 VDD (power), 2 GP5/OSC1/CLKIN (io), 3 GP4/OSC2/AN3/CLKOUT (io), 4 GP3/~{MCLR}/VPP (in), 5 GP2/T0CKI/AN2/INT (io), 6 GP1/AN1/VREF (io), 7 GP0/AN0 (io), 8 VSS (power)

## PIC12LCR509A-04/SM
designator U?
8-Bit CMOS Microcontroller, 8-Pin SOIC 208mil, 4 MHz, 2.5 to 5.5V Supply Range, Commercial Temperature; Note: If changing from PIC12C50X to either PIC12C50XA or PIC12CR50XA, verify oscillator characteristics in your application.; Published: 11-Oct-2004; LatestRevisionDate: 13-Apr-2006; LatestRevisionNote: IPC-7351 Footprint Added.; DatasheetVersion: DS40139E_1999; PackageVersion: 2003; PackageReference: SOIC208-8; Publisher: Altium Limited; PackageDescription: 8-Pin Plastic Medium Body Small Outline Package 1.27 mm Pitch; ComponentLink1Description: Manufacturer Link; ComponentLink1URL: http://www.microchip.com; ComponentLink2Description: Datasheet; ComponentLink2URL: http://ww1.microchip.com/downloads/en/DeviceDoc/40139e.pdf; ComponentLink3Description: Packaging Specification; ComponentLink3URL: http://ww1.microchip.com/downloads/en/PackagingSpec/00049AD.pdf
footprint SOIC208-8_N (SOP, 8-Leads, Body 5.2x5.2mm, Pitch 1.27mm, IPC Medium Density)
footprint SOIC208-8_L (SOP, 8-Leads, Body 5.2x5.2mm, Pitch 1.27mm, IPC High Density)
footprint SOIC208-8_M (SOP, 8-Leads, Body 5.2x5.2mm, Pitch 1.27mm, IPC Low Density)
3D model SOIC208-8 (8-Pin Plastic Medium Body Small Outline Package 1.27 mm Pitch)
pins: 1 VDD (power), 2 GP5/OSC1/CLKIN (io), 3 GP4/OSC2 (io), 4 GP3/~{MCLR}/VPP (in), 5 GP2/T0CKI (io), 6 GP1 (io), 7 GP0 (io), 8 VSS (power)

## PIC12LCR509A-04/SN
designator U?
8-Bit CMOS Microcontroller, 8-Pin SOIC 150mil, 4 MHz, 2.5 to 5.5V Supply Range, Commercial Temperature; Note: If changing from PIC12C50X to either PIC12C50XA or PIC12CR50XA, verify oscillator characteristics in your application.; Published: 11-Oct-2004; LatestRevisionDate: 13-Apr-2006; LatestRevisionNote: IPC-7351 Footprint Added.; DatasheetVersion: DS40139E_1999; PackageVersion: Oct-2005; PackageReference: SOIC150-8; Publisher: Altium Limited; PackageDescription: 8-Pin Plastic Narrow Body Small Outline Integrated Circuit 1.27 mm Pitch; Code_JEDEC: MS-012; ComponentLink1Description: Manufacturer Link; ComponentLink1URL: http://www.microchip.com; ComponentLink2Description: Datasheet; ComponentLink2URL: http://ww1.microchip.com/downloads/en/DeviceDoc/40139e.pdf; ComponentLink3Description: Packaging Specification; ComponentLink3URL: http://ww1.microchip.com/downloads/en/PackagingSpec/00049AD.pdf
footprint SOIC150-8_N (SOIC, 8-Leads, Body 4.9x3.8mm, Pitch 1.27mm, IPC Medium Density)
footprint SOIC150-8_L (SOIC, 8-Leads, Body 4.9x3.8mm, Pitch 1.27mm, IPC High Density)
footprint SOIC150-8_M (SOIC, 8-Leads, Body 4.9x3.8mm, Pitch 1.27mm, IPC Low Density)
3D model SOIC150-8 (8-Pin Plastic Narrow Body Small Outline Integrated Circuit 1.27 mm Pitch)
pins: 1 VDD (power), 2 GP5/OSC1/CLKIN (io), 3 GP4/OSC2 (io), 4 GP3/~{MCLR}/VPP (in), 5 GP2/T0CKI (io), 6 GP1 (io), 7 GP0 (io), 8 VSS (power)

## PIC12LCR509A-04I/SM
designator U?
8-Bit CMOS Microcontroller, 8-Pin SOIC 208mil, 4 MHz, 2.5 to 5.5V Supply Range, Industrial Temperature; Note: If changing from PIC12C50X to either PIC12C50XA or PIC12CR50XA, verify oscillator characteristics in your application.; Published: 11-Oct-2004; LatestRevisionDate: 13-Apr-2006; LatestRevisionNote: IPC-7351 Footprint Added.; DatasheetVersion: DS40139E_1999; PackageVersion: 2003; PackageReference: SOIC208-8; Publisher: Altium Limited; PackageDescription: 8-Pin Plastic Medium Body Small Outline Package 1.27 mm Pitch; ComponentLink1Description: Manufacturer Link; ComponentLink1URL: http://www.microchip.com; ComponentLink2Description: Datasheet; ComponentLink2URL: http://ww1.microchip.com/downloads/en/DeviceDoc/40139e.pdf; ComponentLink3Description: Packaging Specification; ComponentLink3URL: http://ww1.microchip.com/downloads/en/PackagingSpec/00049AD.pdf
footprint SOIC208-8_N (SOP, 8-Leads, Body 5.2x5.2mm, Pitch 1.27mm, IPC Medium Density)
footprint SOIC208-8_L (SOP, 8-Leads, Body 5.2x5.2mm, Pitch 1.27mm, IPC High Density)
footprint SOIC208-8_M (SOP, 8-Leads, Body 5.2x5.2mm, Pitch 1.27mm, IPC Low Density)
3D model SOIC208-8 (8-Pin Plastic Medium Body Small Outline Package 1.27 mm Pitch)
pins: 1 VDD (power), 2 GP5/OSC1/CLKIN (io), 3 GP4/OSC2 (io), 4 GP3/~{MCLR}/VPP (in), 5 GP2/T0CKI (io), 6 GP1 (io), 7 GP0 (io), 8 VSS (power)

## PIC12LCR509A-04I/SN
designator U?
8-Bit CMOS Microcontroller, 8-Pin SOIC 150mil, 4 MHz, 2.5 to 5.5V Supply Range, Industrial Temperature; Note: If changing from PIC12C50X to either PIC12C50XA or PIC12CR50XA, verify oscillator characteristics in your application.; Published: 11-Oct-2004; LatestRevisionDate: 13-Apr-2006; LatestRevisionNote: IPC-7351 Footprint Added.; DatasheetVersion: DS40139E_1999; PackageVersion: Oct-2005; PackageReference: SOIC150-8; Publisher: Altium Limited; PackageDescription: 8-Pin Plastic Narrow Body Small Outline Integrated Circuit 1.27 mm Pitch; Code_JEDEC: MS-012; ComponentLink1Description: Manufacturer Link; ComponentLink1URL: http://www.microchip.com; ComponentLink2Description: Datasheet; ComponentLink2URL: http://ww1.microchip.com/downloads/en/DeviceDoc/40139e.pdf; ComponentLink3Description: Packaging Specification; ComponentLink3URL: http://ww1.microchip.com/downloads/en/PackagingSpec/00049AD.pdf
footprint SOIC150-8_N (SOIC, 8-Leads, Body 4.9x3.8mm, Pitch 1.27mm, IPC Medium Density)
footprint SOIC150-8_L (SOIC, 8-Leads, Body 4.9x3.8mm, Pitch 1.27mm, IPC High Density)
footprint SOIC150-8_M (SOIC, 8-Leads, Body 4.9x3.8mm, Pitch 1.27mm, IPC Low Density)
3D model SOIC150-8 (8-Pin Plastic Narrow Body Small Outline Integrated Circuit 1.27 mm Pitch)
pins: 1 VDD (power), 2 GP5/OSC1/CLKIN (io), 3 GP4/OSC2 (io), 4 GP3/~{MCLR}/VPP (in), 5 GP2/T0CKI (io), 6 GP1 (io), 7 GP0 (io), 8 VSS (power)